# Altium footprint library 1-2199298-9.PcbLib: 2 footprints
Each footprint in its own frame and in the unit in brackets; x right, y up, seen from the top. Pads: shape width x height; smd on the part's side, far side on the other; paste and mask are expansions set on the pad; w line width, h text height; cw(c..) or ccw(c..) is an arc to the next point about the centre after c.
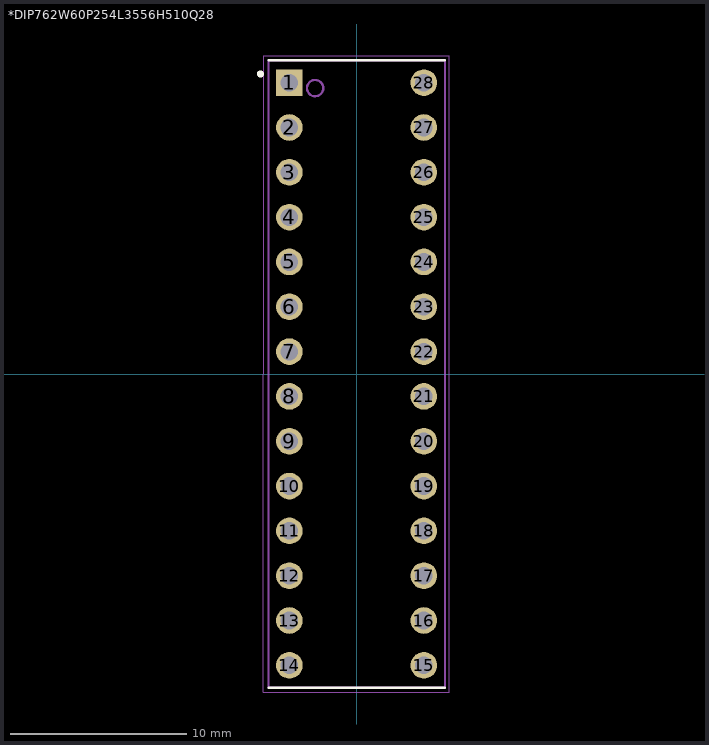
[diagram p0: the footprints below, top view; thin cyan lines are the x and y axes]

## *DIP762W60P254L3556H510Q28 [mm]
pads (28):
  rect 1.508x1.508 hole 1: 1(-3.81,16.51)
  round 1.508 hole 1: 2(-3.81,13.97) 3(-3.81,11.43) 4(-3.81,8.89) 5(-3.81,6.35) 6(-3.81,3.81) 7(-3.81,1.27) 8(-3.81,-1.27) 9(-3.81,-3.81) 10(-3.81,-6.35) 11(-3.81,-8.89) 12(-3.81,-11.43) 13(-3.81,-13.97) 14(-3.81,-16.51) 15(3.81,-16.51) 16(3.81,-13.97) 17(3.81,-11.43) 18(3.81,-8.89) 19(3.81,-6.35) 20(3.81,-3.81) 21(3.81,-1.27) 22(3.81,1.27) 23(3.81,3.81) 24(3.81,6.35) 25(3.81,8.89) 26(3.81,11.43) 27(3.81,13.97) 28(3.81,16.51)
Top Overlay:
  circle w0.2: c-5.45,17 r0.1
  lines w0.127: -5,-17.78 5,-17.78 ; -5,17.78 5,17.78
Mechanical 4:
  circle w0.127: c-2.35,16.2 r0.461
  circle w0.127: c-2.35,16.2 r0.461
  lines w0.127: -5,-17.78 5,-17.78 ; -5,-17.78 -5,17.78 ; -5,-17.78 5,-17.78 ; -5,-17.78 -5,17.78 ; -5,17.78 5,17.78 ; -5,17.78 5,17.78 ; 5,-17.78 5,17.78 ; 5,-17.78 5,17.78
Mechanical 16:
  lines w0.05: -5.28,-18.03 -5.25,18.03 5.25,18.03 5.25,-18.03 -5.28,-18.03

## PCBComponent_1 [mil]